# EAGLE library part PIC16F1503 (library 1dah)
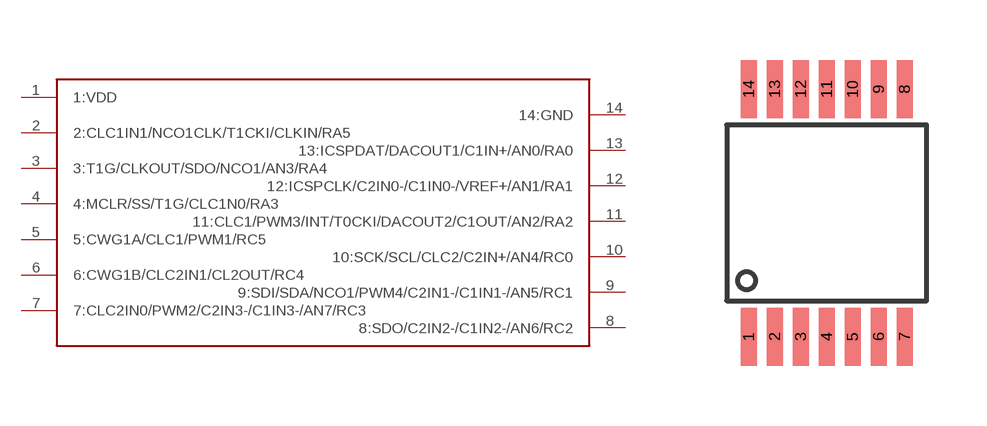
[diagram p36: symbol with the pads of TSSOP14; footprint TSSOP14]

Designator prefix -

## PIC16F1503TSSOP14  [TSSOP14]
1  1:VDD
2  2:CLC1IN1/NCO1CLK/T1CKI/CLKIN/RA5
3  3:T1G/CLKOUT/SDO/NCO1/AN3/RA4
4  4:MCLR/SS/T1G/CLC1N0/RA3
5  5:CWG1A/CLC1/PWM1/RC5
6  6:CWG1B/CLC2IN1/CL2OUT/RC4
7  7:CLC2IN0/PWM2/C2IN3-/C1IN3-/AN7/RC3
8  8:SDO/C2IN2-/C1IN2-/AN6/RC2
9  9:SDI/SDA/NCO1/PWM4/C2IN1-/C1IN1-/AN5/RC1
10  10:SCK/SCL/CLC2/C2IN+/AN4/RC0
11  11:CLC1/PWM3/INT/T0CKI/DACOUT2/C1OUT/AN2/RA2
12  12:ICSPCLK/C2IN0-/C1IN0-/VREF+/AN1/RA1
13  13:ICSPDAT/DACOUT1/C1IN+/AN0/RA0
14  14:GND

## Footprint TSSOP14 (pad centres in mm)
smd 0.4 x 1.45: 1 -1.95,-3.1; 2 -1.3,-3.1; 3 -0.65,-3.1; 4 0,-3.1; 5 0.65,-3.1; 6 1.3,-3.1; 7 1.95,-3.1; 8 1.95,3.1; 9 1.3,3.1; 10 0.65,3.1; 11 0,3.1; 12 -0.65,3.1; 13 -1.3,3.1; 14 -1.95,3.1